# EAGLE library part BMP085 (library bmp085)
Barometer chip bmp085 for MAPS
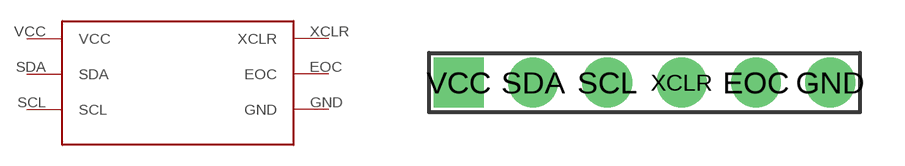
[diagram p0: symbol with the pads of BMP085; footprint BMP085]

Designator prefix -

## BMP085  [BMP085]
EOC  EOC
GND  GND
SCL  SCL
SDA  SDA
VCC  VCC
XCLR  XCLR

## Footprint BMP085 (pad centres in mm)
drill 0.7 pad 1.676: EOC 10,0; GND 12.5,0; SCL 5,0; SDA 2.5,0; XCLR 7.5,0
drill 0.7 pad 1.676 square: VCC 0,0